# Altium footprint library cy.PcbLib: 99 footprints (part 1 of 7)
Each footprint in its own frame and in the unit in brackets; x right, y up, seen from the top. Pads: shape width x height; smd on the part's side, far side on the other; paste and mask are expansions set on the pad; w line width, h text height; cw(c..) or ccw(c..) is an arc to the next point about the centre after c.
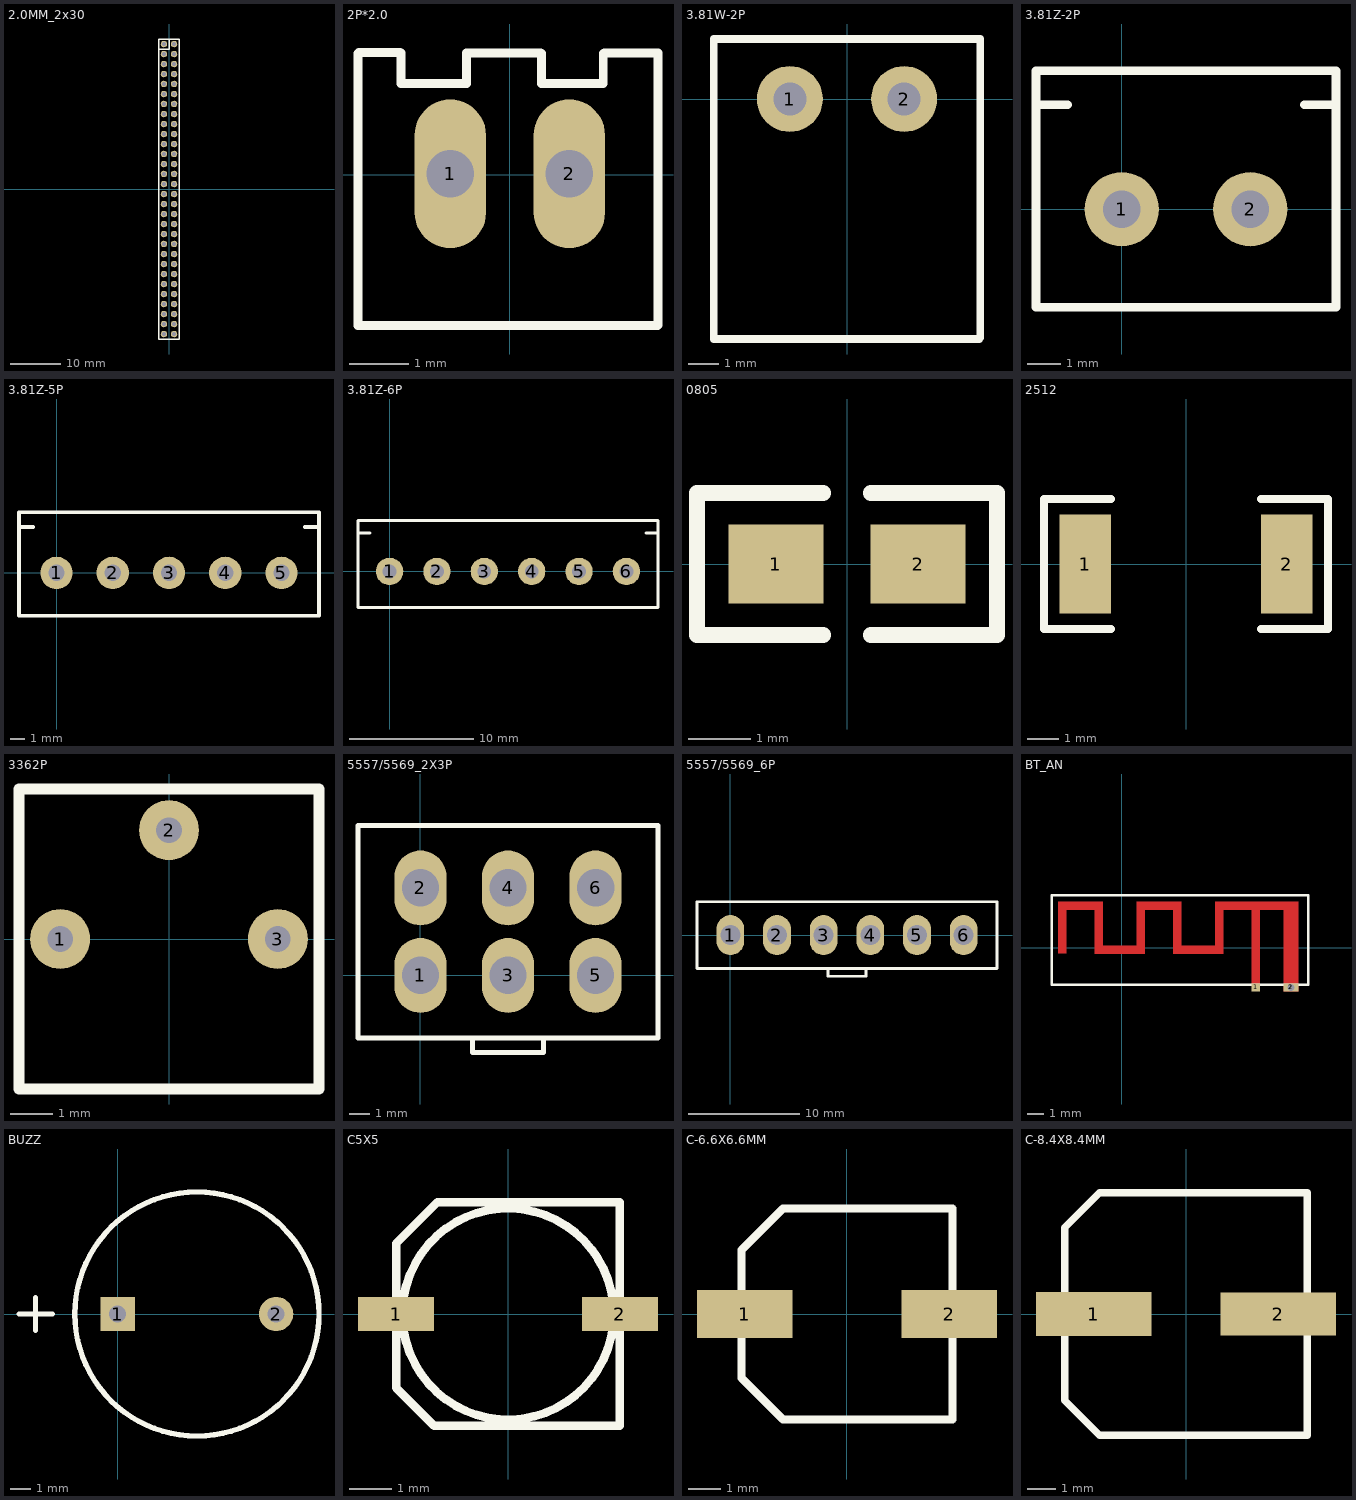
[diagram p0: the footprints below, top view; thin cyan lines are the x and y axes]

## 2.0MM_2x30 [mm]
pads (60):
  round 1.3 hole 0.8: 1(-1,29) 2(1,29) 3(-1,27) 4(1,27) 5(-1,25) 6(1,25) 7(-1,23) 8(1,23) 9(-1,21) 10(1,21) 11(-1,19) 12(1,19) 13(-1,17) 14(1,17) 15(-1,15) 16(1,15) 17(-1,13) 18(1,13) 19(-1,11) 20(1,11) 21(-1,9) 22(1,9) 23(-1,7) 24(1,7) 25(-1,5) 26(1,5) 27(-1,3) 28(1,3) 29(-1,1) 30(1,1) 31(-1,-1) 32(1,-1) 33(-1,-3) 34(1,-3) 35(-1,-5) 36(1,-5) 37(-1,-7) 38(1,-7) 39(-1,-9) 40(1,-9) 41(-1,-11) 42(1,-11) 43(-1,-13) 44(1,-13) 45(-1,-15) 46(1,-15) 47(-1,-17) 48(1,-17) 49(-1,-19) 50(1,-19) 51(-1,-21) 52(1,-21) 53(-1,-23) 54(1,-23) 55(-1,-25) 56(1,-25) 57(-1,-27) 58(1,-27) 59(-1,-29) 60(1,-29)
Top Overlay:
  lines w0.254: -2,28 0,28 0,30 ; 2,-30 -2,-30 -2,30 2,30 ; 2,-30 2,-30 ; 2,-30 2,-29 2,30 ; 2,30 2,30

## 2P*2.0 [mm]
pads (2):
  oval 1.2x2.5 hole 0.8: 1(-1.001,0.012) 2(0.999,0.012)
Top Overlay:
  lines w0.15: -2.551,-2.538 -2.551,1.532 ; -2.551,1.362 -2.551,2.032 -2.531,2.052 -1.841,2.052 -1.831,2.042 -1.831,1.532 -0.731,1.532 -0.731,2.042 0.519,2.042 ; -2.541,-2.538 2.479,-2.538 ; 0.529,1.532 1.569,1.532 1.569,2.032 1.589,2.042 2.469,2.042 2.489,2.042 2.489,-2.528 ; 0.529,1.582 0.529,2.032

## 3.81W-2P [mm]
pads (2):
  round 2.2 hole 1.1: 1(-1.905,0) 2(1.905,0)
Top Overlay:
  lines w0.254: -4.445,-8 -1.905,-8 ; -4.445,-7.96 -4.445,-2.7 ; -4.445,-2.9 -4.445,2 -1.905,2 ; -2.405,2 4.445,2 4.445,-2.9 ; -2.105,-8 4.405,-8 ; 4.445,-7.96 4.445,-2.7

## 3.81Z-2P [mm]
pads (2):
  round 2.2 hole 1.1: 1(0,0) 2(3.81,0)
Top Overlay:
  lines w0.254: -2.54,3.1 -1.6,3.1 ; 5.41,3.1 6.35,3.1 ; -2.54,-2.9 6.35,-2.9 6.35,4.1 -2.54,4.1 -2.54,-2.9

## 3.81Z-5P [mm]
pads (5):
  round 2.2 hole 1.1: 1(0,0) 2(3.81,0) 3(7.62,0) 4(11.43,0) 5(15.24,0)
Top Overlay:
  lines w0.254: -2.54,3.1 -1.6,3.1 ; 16.84,3.1 17.78,3.1 ; -2.54,-2.9 17.78,-2.9 17.78,4.1 -2.54,4.1 -2.54,-2.9

## 3.81Z-6P [mm]
pads (6):
  round 2.2 hole 1.1: 1(0,0) 2(3.81,0) 3(7.62,0) 4(11.43,0) 5(15.24,0) 6(19.05,0)
Top Overlay:
  lines w0.254: -2.54,3.1 -1.6,3.1 ; 20.65,3.1 21.59,3.1 ; -2.54,-2.9 -2.54,4.1 21.59,4.1 21.59,-2.9 -2.54,-2.9

## 0805 [mil]
pads (2):
  rect 60x50 smd: 1(-45,0) 2(45,0)
Top Overlay:
  lines w10: -15,-45 -95,-45 -95,45 -15,45 ; 15,-45 95,-45 95,45 15,45

## 2512 [mil]
pads (2):
  rect 65x125 smd: 1(-127.5,0) 2(127.5,0)
Top Overlay:
  lines w10: -95,-82.5 -180,-82.5 -180,82.5 -95,82.5 ; 95,-82.5 180,-82.5 180,82.5 95,82.5

## 3362P [mm]
pads (3):
  round 1.4 hole 0.6: 1(-2.54,0) 2(0,2.54) 3(2.54,0)
Top Overlay:
  lines w0.254: -3.5,-3.5 3.5,-3.5 3.5,3.5 -3.5,3.5 -3.5,-3.5

## 5557/5569_2X3P [mm]
pads (6):
  oval 2.5x3.6 hole 1.8: 1(0,0) 2(0,4.2) 3(4.2,0) 4(4.2,4.2) 5(8.4,0) 6(8.4,4.2)
Top Overlay:
  lines w0.254: 2.5,-3 2.5,-3.7 4.2,-3.7 5.9,-3.7 5.9,-3 ; -3,-3 -3,7.2 11.4,7.2 11.4,-3 -3,-3

## 5557/5569_6P [mm]
pads (6):
  oval 2.5x3.6 hole 1.8: 1(0,0) 2(4.2,0) 3(8.4,0) 4(12.6,0) 5(16.8,0) 6(21,0)
Top Overlay:
  lines w0.254: 8.8,-3 8.8,-3.7 10.5,-3.7 12.2,-3.7 12.2,-3 ; -3,-3 24,-3 24,3 -3,3 -3,-3

## BT_AN [mm]
pads (17):
  rect 0.5x0.5 smd mask+0.003: 1(8.04,-2.38)
  rect 0.9x0.5 smd mask+0.003: 2(10.14,-2.38)
  rect 0.9x0.5 on Top Solder mask+0.003: 2(10.14,-2.38)
  oval 0.7x0.5 hole 0.4 mask+0.01: 2(10.14,-2.38)
  rect 0.5x0.5 on Top Solder mask+0.003: ""(-3.56,2.52) ""(-3.55,-0.09) ""(-1.36,-0.12) ""(-1.36,2.52) ""(1.14,-0.12) ""(1.14,2.52) ""(3.34,-0.12) ""(3.34,2.52) ""(5.84,-0.12) ""(5.84,2.52) ""(8.04,2.02) ""(8.04,-2.38)
  rect 0.5x0.5 on Top Solder mask+0: ""(10.34,2.52)
Top Layer:
  region: -3.31,-0.36 -3.31,2.77 -3.81,2.77 -3.81,-0.36
  region: -1.11,2.271 -1.11,2.77 -3.81,2.77 -3.81,2.271
  region: -1.61,0.13 -1.61,-0.37 1.091,-0.37 1.091,0.13
  region: -1.11,-0.37 -1.11,2.77 -1.61,2.77 -1.61,-0.37
  region: 6.09,-0.37 6.09,2.77 5.59,2.77 5.59,-0.37
  region: 8.291,-2.288 8.291,2.52 7.79,2.52 7.79,-2.288
  region: 10.589,-2.63 10.589,2.77 9.69,2.77 9.69,-2.63
  region: 6.09,-0.37 6.09,0.13 3.09,0.13 3.09,-0.37
  region: 3.591,-0.37 3.591,2.77 3.09,2.77 3.09,-0.37
  region: 3.591,2.27 3.591,2.77 0.89,2.77 0.89,2.27
  region: 1.39,-0.37 1.39,2.77 0.89,2.77 0.89,-0.37
  lines w0.5: 5.84,2.52 10.34,2.52
Top Overlay:
  lines w0.15: -4.185,-2.205 11.165,-2.205 11.165,3.145 -4.185,3.145 -4.185,-2.205
Top Solder:
  lines w0.5: -3.55,-0.09 -3.56,2.52 -1.36,2.52 -1.36,-0.12 1.14,-0.12 1.14,2.52 3.34,2.52 3.34,-0.12 5.84,-0.12 5.84,2.52 10.34,2.52 ; 8.04,-2.38 8.04,2.52
  lines w0.9: 10.14,-2.18 10.14,2.32

## BUZZ [mil]
pads (2):
  rect 65x65 hole 32: 1(0,0)
  round 65 hole 32: 2(299.21,0)
Top Overlay:
  circle w10: c149.61,0 r230.49
  lines w10: -186.32,0 -155,0 ; -155,-31.32 -155,0 ; -155,31.32 -155,0 ; -123.68,0 -155,0
3D body: height 338.66, standoff -212.52, extent -110,-240 362.44,232.44

## C5X5 [mm]
height 5.5
pads (2):
  rect 1.8x0.8 smd: 1(-2.65,0) 2(2.65,0)
Top Overlay:
  circle w0.2: c0,0 r2.5
  lines w0.2: -2.65,-1.744 -2.65,1.668 -1.668,2.65 2.65,2.65 2.65,-2.65 -1.744,-2.65 -2.65,-1.744
3D body: height 5.2, standoff 0, extent -2.8,-2.667 2.8,2.633

## C-6.6X6.6MM [mm]
pads (2):
  rect 3x1.5 smd: 1(-3.2,0) 2(3.2,0)
Top Overlay:
  lines w0.254: -3.3,-2 -2,-3.3 3.3,-3.3 3.3,3.3 -2,3.3 -3.3,2 -3.3,-2

## C-8.4X8.4MM [mm]
pads (2):
  rect 4x1.524 smd: 1(-3.2,0)
  rect 4x1.5 smd: 2(3.2,0)
Top Overlay:
  lines w0.254: -3,4.2 4.2,4.2 4.2,-4.2 -3,-4.2 -4.2,-3 -4.2,3 -3,4.2 ; -3,4.2 -3,4.2